# Altium footprint library layersAndNumbers.PcbLib: 30 footprints (part 2 of 2)
Each footprint in its own frame and in the unit in brackets; x right, y up, seen from the top. Pads: shape width x height; smd on the part's side, far side on the other; paste and mask are expansions set on the pad; w line width, h text height; cw(c..) or ccw(c..) is an arc to the next point about the centre after c.
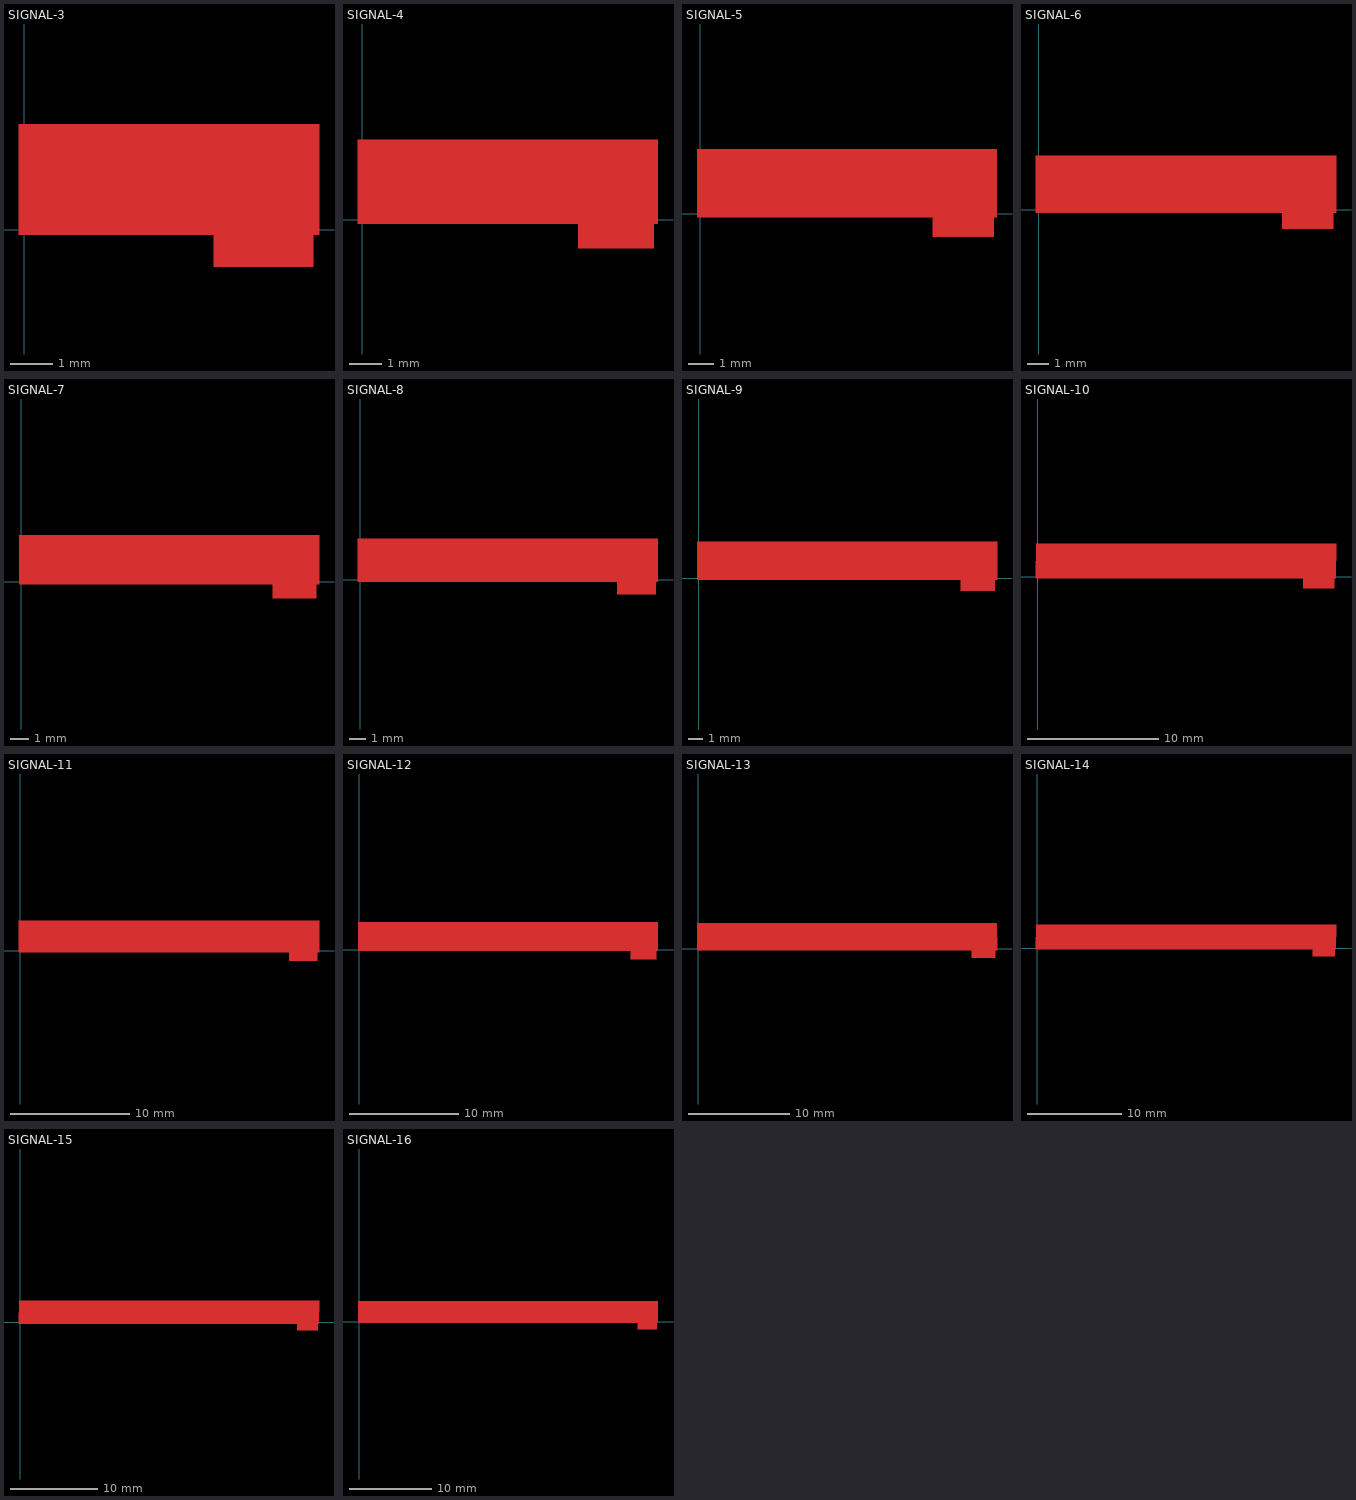
[diagram p1: the footprints below, top view; thin cyan lines are the x and y axes]

## SIGNAL-3 [mm]
Top Layer:
  region: 4.625,2.375 4.5,2.375 4.5,0 4.625,0
  region: 4.5,0.125 4.5,-0.889 6.875,-0.889 6.875,0.125
  region: 6.875,2.375 6.75,2.375 6.75,0 6.875,0
  region: 6.875,2.25 6.875,2.375 4.5,2.375 4.5,2.25
  rectangle: 6.75,0 6.875,2.375
  pour cut-out: -0.125,2.5 -0.125,-0.125 7,-0.125 7,2.5
  text "3" at 5.334,0.55 h2
Top Solder:
  rectangle: 4.5,0 6.875,2.375
Bottom Solder:
  rectangle: 4.5,0 6.875,2.375

## SIGNAL-4 [mm]
Top Layer:
  region: 6.875,2.375 6.75,2.375 6.75,0 6.875,0
  region: 6.75,0.125 6.75,-0.889 9.125,-0.889 9.125,0.125
  region: 9.125,2.375 9,2.375 9,0 9.125,0
  region: 9.125,2.25 9.125,2.375 6.75,2.375 6.75,2.25
  rectangle: 9,0 9.125,2.375
  pour cut-out: -0.125,2.5 -0.125,-0.125 9.25,-0.125 9.25,2.5
  text "4" at 7.493,0.55 h2
Top Solder:
  rectangle: 6.75,0 9.125,2.375
Bottom Solder:
  rectangle: 6.75,0 9.125,2.375

## SIGNAL-5 [mm]
Top Layer:
  rectangle: 11.25,0 11.375,2.375
  region: 11.375,2.25 11.375,2.375 9,2.375 9,2.25
  region: 11.375,2.375 11.25,2.375 11.25,0 11.375,0
  region: 9,0.125 9,-0.889 11.375,-0.889 11.375,0.125
  region: 9.125,2.375 9,2.375 9,0 9.125,0
  pour cut-out: -0.125,2.5 -0.125,-0.125 11.5,-0.125 11.5,2.5
  text "5" at 9.779,0.55 h2
Top Solder:
  rectangle: 9,0 11.375,2.375
Bottom Solder:
  rectangle: 9,0 11.375,2.375

## SIGNAL-6 [mm]
Top Layer:
  region: 11.25,0.125 11.25,-0.889 13.625,-0.889 13.625,0.125
  region: 13.625,2.375 13.5,2.375 13.5,0 13.625,0
  region: 13.625,2.25 13.625,2.375 11.25,2.375 11.25,2.25
  rectangle: 11.25,0 11.375,2.375
  rectangle: 13.5,0 13.625,2.375
  pour cut-out: -0.125,2.5 -0.125,-0.125 13.75,-0.125 13.75,2.5
  text "6" at 12.065,0.55 h2
Top Solder:
  rectangle: 11.25,0 13.625,2.375
Bottom Solder:
  rectangle: 11.25,0 13.625,2.375

## SIGNAL-7 [mm]
Top Layer:
  region: 13.625,2.375 13.5,2.375 13.5,0 13.625,0
  region: 13.5,0.125 13.5,-0.889 15.875,-0.889 15.875,0.125
  region: 15.875,2.375 15.75,2.375 15.75,0 15.875,0
  region: 15.875,2.25 15.875,2.375 13.5,2.375 13.5,2.25
  rectangle: 15.75,0 15.875,2.375
  pour cut-out: -0.125,2.5 -0.125,-0.125 16,-0.125 16,2.5
  text "7" at 14.351,0.55 h2
Top Solder:
  rectangle: 13.5,0 15.875,2.375
Bottom Solder:
  rectangle: 13.5,0 15.875,2.375

## SIGNAL-8 [mm]
Top Layer:
  region: 15.75,0.125 15.75,-0.889 18.125,-0.889 18.125,0.125
  region: 18.125,2.375 18,2.375 18,0 18.125,0
  region: 18.125,2.25 18.125,2.375 15.75,2.375 15.75,2.25
  rectangle: 15.75,0 15.875,2.375
  rectangle: 18,0 18.125,2.375
  pour cut-out: -0.125,2.5 -0.125,-0.125 18.25,-0.125 18.25,2.5
  text "8" at 16.637,0.55 h2
Top Solder:
  rectangle: 15.75,0 18.125,2.375
Bottom Solder:
  rectangle: 15.75,0 18.125,2.375

## SIGNAL-9 [mm]
Top Layer:
  region: 18.125,2.375 18,2.375 18,0 18.125,0
  region: 18,0.125 18,-0.889 20.375,-0.889 20.375,0.125
  region: 20.375,2.375 20.25,2.375 20.25,0 20.375,0
  region: 20.375,2.25 20.375,2.375 18,2.375 18,2.25
  rectangle: 20.25,0 20.375,2.375
  pour cut-out: -0.125,2.5 -0.125,-0.125 20.5,-0.125 20.5,2.5
  text "9" at 18.796,0.55 h2
Top Solder:
  rectangle: 18,0 20.375,2.375
Bottom Solder:
  rectangle: 18,0 20.375,2.375

## SIGNAL-10 [mm]
Top Layer:
  region: 22.625,2.25 22.625,2.375 20.25,2.375 20.25,2.25
  region: 22.625,2.375 22.5,2.375 22.5,0 22.625,0
  region: 20.25,0.125 20.25,-0.889 22.625,-0.889 22.625,0.125
  rectangle: 22.5,0 22.625,2.375
  region: 20.375,2.375 20.25,2.375 20.25,0 20.375,0
  pour cut-out: -0.125,2.5 -0.125,-0.125 22.75,-0.125 22.75,2.5
  text "10" at 20.574,0.55 h2
Top Solder:
  rectangle: 20.25,0 22.625,2.375
Bottom Solder:
  rectangle: 20.25,0 22.625,2.375

## SIGNAL-11 [mm]
Top Layer:
  region: 22.625,2.375 22.5,2.375 22.5,0 22.625,0
  region: 22.5,0.125 22.5,-0.889 24.875,-0.889 24.875,0.125
  region: 24.875,2.375 24.75,2.375 24.75,0 24.875,0
  region: 24.875,2.25 24.875,2.375 22.5,2.375 22.5,2.25
  rectangle: 24.75,0 24.875,2.375
  pour cut-out: -0.125,2.5 -0.125,-0.125 25,-0.125 25,2.5
  text "11" at 22.987,0.55 h2
Top Solder:
  rectangle: 22.5,0 24.875,2.375
Bottom Solder:
  rectangle: 22.5,0 24.875,2.375

## SIGNAL-12 [mm]
Top Layer:
  region: 24.75,0.125 24.75,-0.889 27.125,-0.889 27.125,0.125
  region: 27.125,2.375 27,2.375 27,0 27.125,0
  region: 27.125,2.25 27.125,2.375 24.75,2.375 24.75,2.25
  rectangle: 24.75,0 24.875,2.375
  rectangle: 27,0 27.125,2.375
  pour cut-out: -0.125,2.5 -0.125,-0.125 27.25,-0.125 27.25,2.5
  text "12" at 25.146,0.55 h2
Top Solder:
  rectangle: 24.75,0 27.125,2.375
Bottom Solder:
  rectangle: 24.75,0 27.125,2.375

## SIGNAL-13 [mm]
Top Layer:
  region: 27.125,2.375 27,2.375 27,0 27.125,0
  region: 27,0.125 27,-0.889 29.375,-0.889 29.375,0.125
  region: 29.375,2.375 29.25,2.375 29.25,0 29.375,0
  region: 29.375,2.25 29.375,2.375 27,2.375 27,2.25
  rectangle: 29.25,0 29.375,2.375
  pour cut-out: -0.125,2.5 -0.125,-0.125 29.5,-0.125 29.5,2.5
  text "13" at 27.305,0.55 h2
Top Solder:
  rectangle: 27,0 29.375,2.375
Bottom Solder:
  rectangle: 27,0 29.375,2.375

## SIGNAL-14 [mm]
Top Layer:
  rectangle: 31.5,0 31.625,2.375
  rectangle: 29.25,0 29.375,2.375
  region: 31.625,2.25 31.625,2.375 29.25,2.375 29.25,2.25
  region: 31.625,2.375 31.5,2.375 31.5,0 31.625,0
  region: 29.25,0.125 29.25,-0.889 31.625,-0.889 31.625,0.125
  pour cut-out: -0.125,2.5 -0.125,-0.125 31.75,-0.125 31.75,2.5
  text "14" at 29.591,0.55 h2
Top Solder:
  rectangle: 29.25,0 31.625,2.375
Bottom Solder:
  rectangle: 29.25,0 31.625,2.375

## SIGNAL-15 [mm]
Top Layer:
  rectangle: 33.75,0 33.875,2.375
  region: 33.875,2.25 33.875,2.375 31.5,2.375 31.5,2.25
  region: 33.875,2.375 33.75,2.375 33.75,0 33.875,0
  region: 31.5,0.125 31.5,-0.889 33.875,-0.889 33.875,0.125
  region: 31.625,2.375 31.5,2.375 31.5,0 31.625,0
  pour cut-out: -0.125,2.5 -0.125,-0.125 34,-0.125 34,2.5
  text "15" at 31.877,0.55 h2
Top Solder:
  rectangle: 31.5,0 33.875,2.375
Bottom Solder:
  rectangle: 31.5,0 33.875,2.375

## SIGNAL-16 [mm]
Top Layer:
  region: 33.75,0.125 33.75,-0.889 36.125,-0.889 36.125,0.125
  region: 36.125,2.375 36,2.375 36,0 36.125,0
  region: 36.125,2.25 36.125,2.375 33.75,2.375 33.75,2.25
  rectangle: 33.75,0 33.875,2.375
  rectangle: 36,0 36.125,2.375
  pour cut-out: -0.125,2.5 -0.125,-0.125 36.25,-0.125 36.25,2.5
  text "16" at 34.036,0.55 h2
Top Solder:
  rectangle: 33.75,0 36.125,2.375
Bottom Solder:
  rectangle: 33.75,0 36.125,2.375